# EAGLE library part 734-563 (library con-wago_3.81mm)
Serie 734, Federleiste mit abgewinkelten Einlötstiften / Series 734, Female connector with angled solder pins Polzahl / Pole No.: 3 Bemessungsspannung / Rated Voltage: 160 V Nennstrom / Nominal Current: 10 A Lötstiftlänge: / Solder Pin Length: 3.8 mm Farbe / Color: orange / orange Stand: 01.01.2012. Die jeweils aktuellen Daten zu diesem Artikel finden Sie in unserem Produktkatalog, den Sie unter www.wago.com einsehen können. As of: 01/01/2012. Please find the newest data for this article in our product catalogue, which can be viewed under www.wago.com.
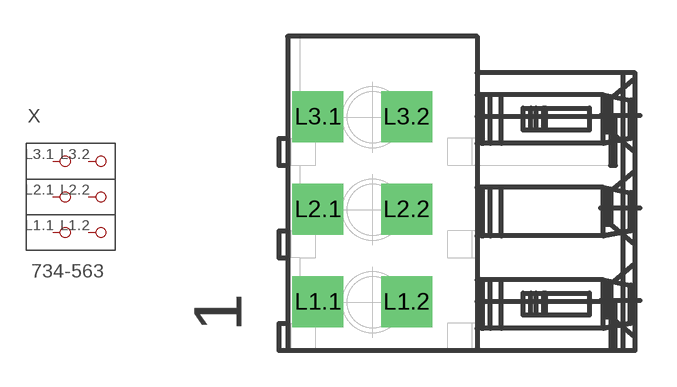
[diagram p48: symbol with the pads of P-734-563; footprint P-734-563]

Designator prefix X

## 734-563  [P-734-563]
L1.1  P1.1
L1.2  P1.2
L2.1  P2.1
L2.2  P2.2
L3.1  P3.1
L3.2  P3.2

## Footprint P-734-563 (pad centres in mm)
drill 1.4 square: L1.1 -5.832,-4.455; L1.2 -2.182,-4.455; L2.1 -5.832,-0.645; L2.2 -2.182,-0.645; L3.1 -5.832,3.165; L3.2 -2.182,3.165